# Altium footprint library MOLEX_171857-1002.PcbLib: 1 footprints
Each footprint in its own frame and in the unit in brackets; x right, y up, seen from the top. Pads: shape width x height; smd on the part's side, far side on the other; paste and mask are expansions set on the pad; w line width, h text height; cw(c..) or ccw(c..) is an arc to the next point about the centre after c.
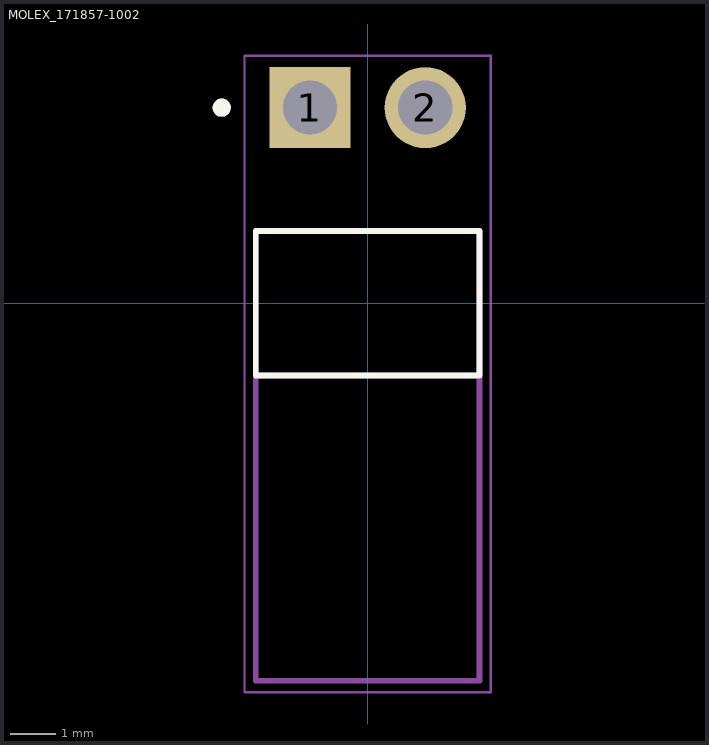
[diagram p0: the footprint, top view; thin cyan lines are the x and y axes]

## MOLEX_171857-1002 [mm]
pads (2):
  rect 1.785x1.785 / inner round 1.785 / far side rect 1.785x1.785 hole 1.19: 1(-1.27,4.31)
  round 1.785 hole 1.19: 2(1.27,4.31)
Top Overlay:
  circle w0.2: c-3.215,4.31 r0.1
  lines w0.127: -2.465,-1.59 -2.465,1.59 2.465,1.59 2.465,-1.59 -2.465,-1.59
Mechanical 13:
  circle w0.2: c-3.215,4.31 r0.1
  lines w0.127: -2.465,-1.59 -2.465,1.59 2.465,1.59 2.465,-1.59 ; -2.465,-1.59 -2.465,-8.32 2.465,-8.32 2.465,-1.59 ; -2.465,-1.59 2.465,-1.59
Mechanical 15:
  lines w0.05: -2.715,-8.57 -2.715,5.453 2.715,5.453 2.715,-8.57 -2.715,-8.57